# Altium footprint library PcbLib2.PcbLib: 1 footprints
Each footprint in its own frame and in the unit in brackets; x right, y up, seen from the top. Pads: shape width x height; smd on the part's side, far side on the other; paste and mask are expansions set on the pad; w line width, h text height; cw(c..) or ccw(c..) is an arc to the next point about the centre after c.
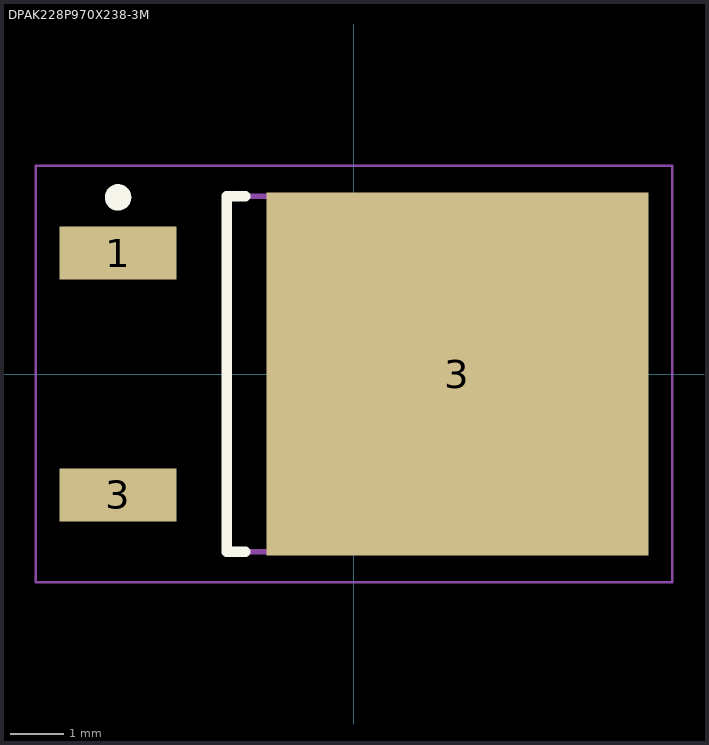
[diagram p0: the footprint, top view; thin cyan lines are the x and y axes]

## DPAK228P970X238-3M [mm] "D-PAK, 3-Pads, Body 6.20x6.72mm (max), IPC Low Density"
height 2.38
pads (3):
  rect 2.2x1 smd: 1(-4.45,2.28) 3(-4.45,-2.28)
  rect 7.2x6.85 smd: 3(1.95,0)
Top Overlay:
  circle w0.25: c-4.45,3.33 r0.125
  lines w0.2: -2.05,-3.35 -2.4,-3.35 -2.4,3.35 -2.05,3.35
Mechanical 13:
  lines w0.1: -2.4,-3.35 3.8,-3.35 3.8,3.35 -2.4,3.35 -2.4,-3.35
Mechanical 15:
  lines w0.05: -6,-3.925 6,-3.925 6,3.925 -6,3.925 -6,-3.925
  lines w0.1: -0.5,0 0.5,0 ; 0,-0.5 0,0.5
3D body: height 2.38, standoff 0, extent -2.4,-3.35 3.8,3.35